# Altium integrated library MOSFETs.IntLib: 22 symbols
Pins are listed as number, name and electrical type; pins without a type are passive.

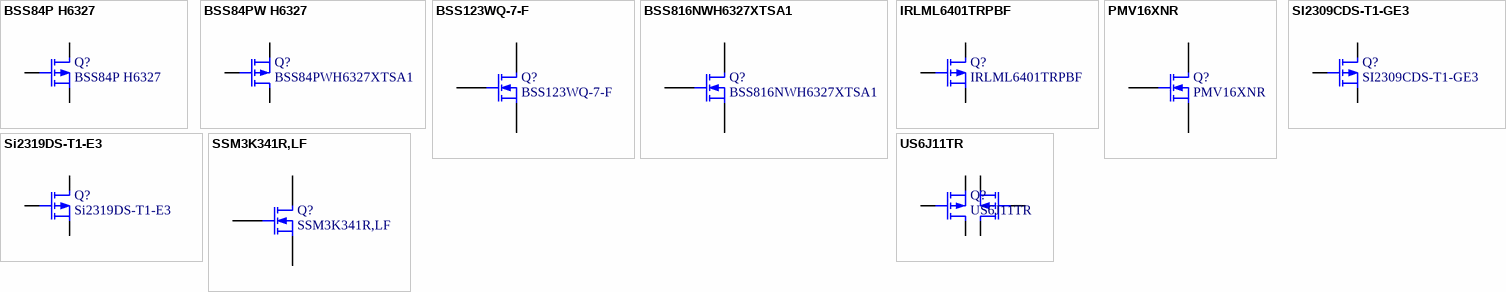
[diagram p0: symbols BSS84P H6327 to US6J11TR]

## BSS84P H6327
designator Q?
P-Channel MOSFET; Manufacturer: Infineon; Mounting Technology: Surface Mount; PartNumber: BSS84P H6327; PackageReference: SOT23-3
footprint SOT23-3
pins: 1 G, 2 D, 3 S

## BSS84PW H6327
designator Q?, comment BSS84PWH6327XTSA1
P-Channel MOSFET; Manufacturer: Infineon; Mounting Technology: Surface Mount; PartNumber: BSS84PWH6327XTSA1; PackageReference: SOT323-3
footprint SOT323-3 (SOT23, 3-Leads, Body 2.00x2.10mm, Pitch 0.65mm, IPC Medium Density)
pins: 1 G, 2 S, 3 D

## BSS123WQ-7-F
designator Q?
N-Channel MOSFET; Manufacturer: Diodes Incorporated; PartNumber: BSS123WQ-7-F; PackageReference: SOT-323-3; Mounting Technology: Surface Mount
footprint SOT323-3 (SOT23, 3-Leads, Body 2.00x2.10mm, Pitch 0.65mm, IPC Medium Density)
pins: 1 G, 2 S, 3 D

## BSS816NWH6327XTSA1
designator Q?
N-Channel MOSFET; Manufacturer: Infineon Technologies; PartNumber: BSS816NWH6327XTSA1; PackageReference: SOT-323-3; Mounting Technology: Surface Mount
footprint SOT323-3 (SOT23, 3-Leads, Body 2.00x2.10mm, Pitch 0.65mm, IPC Medium Density)
pins: 1 G, 2 S, 3 D

## IRLML6401TRPBF
designator Q?
P-Channel MOSFET; Manufacturer: Infineon; Mounting Technology: Surface Mount; PartNumber: IRLML6401TRPBF; PackageReference: SOT23-3
footprint SOT23-3
pins: 1 G, 2 D, 3 S

## PMV16XNR
designator Q?
N-Channel MOSFET; Manufacturer: NXP; PartNumber: PMV16XNR; PackageReference: SOT-23-3; Mounting Technology: Surface Mount
footprint SOT23-3; pin to pad 2>3 3>2
pins: 1 G, 2 S, 3 D

## SI2309CDS-T1-GE3
designator Q?
P-Channel MOSFET; Manufacturer: Vishay; Mounting Technology: Surface Mount; PartNumber: SI2309CDS-T1-GE3; PackageReference: SOT23-3
footprint SOT23-3
pins: 1 G, 2 D, 3 S

## Si2319DS-T1-E3
designator Q?
P-Channel MOSFET; Manufacturer: Vishay; PartNumber: Si2319DS-T1-E3 #PBF; Mounting Technology: Surface Mount; PackageReference: SOT23-3
footprint SOT23-3
pins: 1 G, 2 D, 3 S

## SSM3K341R,LF
designator Q?
N-Channel MOSFET; Manufacturer: Toshiba; PartNumber: SSM3K341R,LF; PackageReference: SOT-23-3; Mounting Technology: Surface Mount
footprint SOT23-3; pin to pad 2>3 3>2
pins: 1 G, 2 S, 3 D

## US6J11TR
designator Q?
P-Channel MOSFET; Manufacturer: ON Semiconductor; Mounting Technology: Surface Mount; PartNumber: US6J11TR; PackageReference: TUMT-6
footprint SOT-363-6FL (SOTFL, 6-Leads, Body 2.00x2.10mm, Pitch 0.65mm, IPC Medium Density)
pins: 1 S1, 2 G1, 3 D2, 4 S2, 5 G2, 6 D1


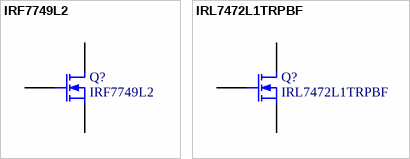
[diagram p1: symbols IRF7749L2 to IRL7472L1TRPBF]

## IRF7749L2
designator Q?
N-Channel MOSFET; PartNumber: IRF7749L1TRPBF; Manufacturer: Infineon Technologies; PackageReference: DIRECTFET L8; PackageDescription: DirectFET™ Isometric L8; Mounting Technology: Surface Mount
footprint DIRECTFET-9
pins: 1 G, 2 S, 3 D

## IRL7472L1TRPBF
designator Q?
N-Channel MOSFET; Manufacturer: Infineon Technologies; PackageReference: DIRECTFET L8; PackageDescription: DirectFET™ Isometric L8; PartNumber: IRL7472L1TRPBF; Mounting Technology: Surface Mount
footprint DIRECTFET-9
pins: 1 G, 2 S, 3 D


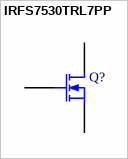
[diagram p2: symbol IRFS7530TRL7PP]

## IRFS7530TRL7PP
designator Q?
N-Channel MOSFET; Published: 8-Jun-2000; LatestRevisionDate: 17-Jul-2002; LatestRevisionNote: Re-released for DXP Platform.; PackageVersion: 1995/1996; PackageReference: E3; Publisher: Altium Limited; PackageDescription: TO, Flat Index; 3 In-Line, Axial Leads; Body Dia. 4.6mm; Lead Dia. 0.5 mm (max)
footprint D2PAK-7 (D2-PAK, 7-Pads, Body 7.93x8.63mm (max), IPC Medium Density)
pins: 1 D, 2 G, 3 S


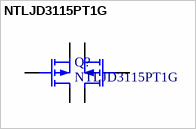
[diagram p3: symbol NTLJD3115PT1G]

## NTLJD3115PT1G
designator Q?
P-Channel MOSFET; Manufacturer: ON Semiconductor; Mounting Technology: Surface Mount; PartNumber: NTLJD3115PT1G; PackageReference: WDFN-6
footprint WDFN-6 (SON, 6-Leads, Body 2x2mm, Pitch 0.65mm, Thermal Pad 1.6x1mm, TI Recommended)
pins: 1 S1, 2 G1, 3 D2, 4 S2, 5 G2, 6 D1


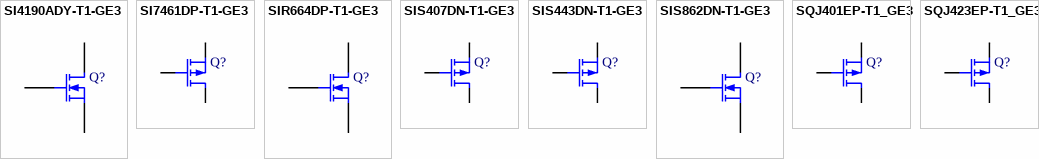
[diagram p4: symbols SI4190ADY-T1-GE3 to SQJ423EP-T1_GE3]

## SI4190ADY-T1-GE3
designator Q?  (value not drawn)
N-Channel MOSFET; Manufacturer: Vishay; PartNumber: SI4190ADY-T1-GE3; Mounting Technology: Surface Mount; PackageReference: SO-8
footprint SO-8 (SOIC, 8-Leads, Body 4.90x3.90mm, Pitch 1.27mm, IPC Medium Density)
pins: 1 S, 2 G, 3 D

## SI7461DP-T1-GE3
designator Q?  (value not drawn)
P-Channel MOSFET; Manufacturer: Vishay; PartNumber: SI7461DP-T1-GE3; Mounting Technology: Surface Mount; PackageReference: PowerPAK SO-8
footprint PowerPak-8 (SOIC, 8-Leads, Body 4.90x3.90mm, Pitch 1.27mm, IPC Medium Density)
pins: 1 S, 2 G, 3 D

## SIR664DP-T1-GE3
designator Q?  (value not drawn)
N-Channel MOSFET; Manufacturer: Vishay; PartNumber: SIR664DP-T1-GE3; Mounting Technology: Surface Mount; PackageReference: PowerPAK-8
footprint PowerPak-8 (SOIC, 8-Leads, Body 4.90x3.90mm, Pitch 1.27mm, IPC Medium Density)
pins: 1 S, 2 G, 3 D

## SIS407DN-T1-GE3
designator Q?  (value not drawn)
P-Channel MOSFET; Manufacturer: Vishay; PartNumber: SIS407DN-T1-GE3; Mounting Technology: Surface Mount; PackageReference: PowerPAK-1212-8
footprint PowerPak-1212-8 (SOIC, 8-Leads, Body 4.90x3.90mm, Pitch 1.27mm, IPC Medium Density)
pins: 1 S, 2 G, 3 D

## SIS443DN-T1-GE3
designator Q?  (value not drawn)
P-Channel MOSFET; Manufacturer: Vishay; PartNumber: SIS443DN-T1-GE3; Mounting Technology: Surface Mount; PackageReference: PowerPAK-1212-8
footprint PowerPak-1212-8 (SOIC, 8-Leads, Body 4.90x3.90mm, Pitch 1.27mm, IPC Medium Density)
pins: 1 S, 2 G, 3 D

## SIS862DN-T1-GE3
designator Q?  (value not drawn)
N-Channel MOSFET; Manufacturer: Vishay; PartNumber: SIS862DN-T1-GE3; Mounting Technology: Surface Mount; PackageReference: PowerPAK-1212-8
footprint PowerPak-1212-8 (SOIC, 8-Leads, Body 4.90x3.90mm, Pitch 1.27mm, IPC Medium Density)
pins: 1 S, 2 G, 3 D

## SQJ401EP-T1_GE3
designator Q?  (value not drawn)
P-Channel MOSFET; Manufacturer: Vishay; PartNumber: SQJ401EP-T1_GE3; Mounting Technology: Surface Mount; PackageReference: PowerPAK SO-8
footprint PowerPak-8 (SOIC, 8-Leads, Body 4.90x3.90mm, Pitch 1.27mm, IPC Medium Density)
pins: 1 S, 2 G, 3 D

## SQJ423EP-T1_GE3
designator Q?  (value not drawn)
P-Channel MOSFET; Manufacturer: Vishay; PartNumber: SQJ423EP-T1_GE3; Mounting Technology: Surface Mount; PackageReference: PowerPAK SO-8
footprint PowerPak-8 (SOIC, 8-Leads, Body 4.90x3.90mm, Pitch 1.27mm, IPC Medium Density)
pins: 1 S, 2 G, 3 D